# EAGLE library part MAX17048G+ (library mbed-HDK-IC)
I2C Battery Monitor IC Lithium-Ion
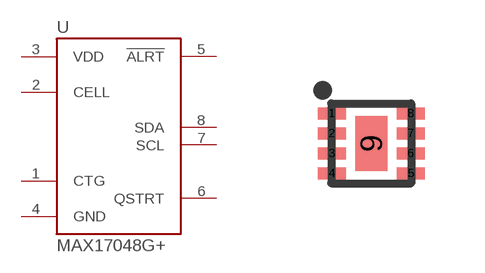
[diagram p11: symbol with the pads of 8-TDFN-EP; footprint 8-TDFN-EP]

Designator prefix U

## MAX17048G+ (MF: Maxim Integrated; MFN: MAX17048G+; OC-DIGIKEY: MAX17048G+-ND; OC-MOUSER: 700-MAX17048G+)  [8-TDFN-EP]
1  CTG
2  CELL
3  VDD
4  GND
5  !ALRT
6  QSTRT
7  SCL
8  SDA

## Footprint 8-TDFN-EP (pad centres in mm)
smd 0.7 x 0.3: 1 0,0; 2 0,-0.5; 3 0,-1; 4 0,-1.5; 5 1.98,-1.5; 6 1.98,-1; 7 1.98,-0.5; 8 1.98,0
smd 0.8 x 1.38: 9 0.99,-0.75